# Altium integrated library EC42-20-HORIZONTAL-SMPS-TRANSFORMER.IntLib: 1 symbol
Pins are listed as number, name and electrical type; pins without a type are passive.

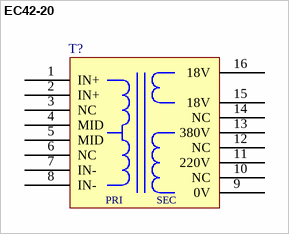
[diagram p0: symbol EC42-20]

## EC42-20
designator T?, comment EC42/EE42  (value not drawn)
Dual 12V To 0-220V-380V 18V 800W EC42-20 Horizontal. 43x43x15mm (L*W*H). 15KHz-50KHz; Insulation Test Voltage: 3600V (AC); Output Current: 2A; Output Voltage: 18V, 220V, 380V; Switching Frequency: 15-50kHz; Category: Transformers For AC-AC Converter; ComponentLink1Description: Website Link; ComponentLink1URL: https://www.we-online.com/redexpert/article/750310660?ad; ComponentLink2Description: Datasheet Link; ComponentLink2URL: https://www.we-online.com/redexpert/spec/750310660?ad; Mount: Through Hole; Operating Temperature Max: 125°C; Operating Temperature Min: -40°C; Packaging: Tray; Case/Size Code: EC42/EE42; Input Voltage: 12V
footprint EC42/EE42 (EC42-20 High Frequency Transformer 43x43x15mm (L*W*H))
pins: 1 IN+, 2 IN+, 3 NC, 4 MID, 5 MID, 6 NC, 7 IN-, 8 IN-, 9 0V, 10 NC, 11 220V, 12 NC, 13 380V, 14 NC, 15 18V, 16 18V
text: PRI; SEC